# EAGLE library part 629722010114 (library WR-USB)
WR-USB Type C Connectors Characteristics Available in 24p (3.x), 16p (2.0) and 6p (Power Delivery only) Aligned with Power Delivery up to 240W High durability (10 000 cycles) UL, TID listing for USB standards Applications Mobile computing and smart devices High-performance industrial and medical systems Consumer electronics and multimedia hubs Smart buildings Details see: www.we-online.com/en/components/products/INPUT_OUTPUT_WR_USB_STANDARD Updated by Ella 2026-07-03 2026 (C) Würth Elektronik
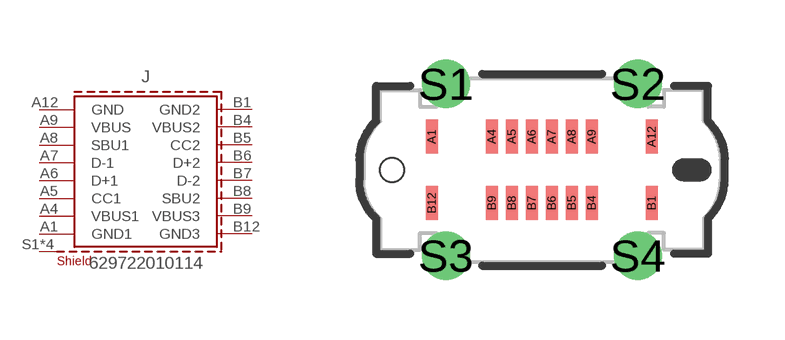
[diagram p36: symbol with the pads of 629722010114; footprint 629722010114]

Designator prefix J

## 629722010114 (APPLICATION: USB 2.0; DATASHEET: https://www.we-online.com/redexpert/spec/629722010114?ae; GERDER: Receptacle; INTERFACE-TYPE: Type C; IR: 5 A; MOUNT: SMT; PART-NUMBER: 629722010114; PCB-THICKNESS: 1.2 mm; PINS: 16pcs; TYPE: Vertical; VALUE: 629722010114; WORKING-VOLTAGE: 48 V (DC))  [629722010114]
A1  GND1  pas
A4  VBUS1  pas
A5  CC1  pas
A6  D+1  pas
A7  D-1  pas
A8  SBU1  pas
A9  VBUS  pas
A12  GND  pas
B1  GND2  pas
B4  VBUS2  pas
B5  CC2  pas
B6  D+2  pas
B7  D-2  pas
B8  SBU2  pas
B9  VBUS3  pas
B12  GND3  pas
S1  SHIELD  pas
S2  SHIELD  pas
S3  SHIELD  pas
S4  SHIELD  pas

## Footprint 629722010114 (pad centres in mm)
WR-USB Type C Connectors USB 2.0, Type C, Vertical SMT, 16Pins, PCB Thickness:1.2 mm
smd 0.3 x 0.85: A1 -2.75,0.83; A4 -1.25,0.83; A5 -0.75,0.83; A6 -0.25,0.83; A7 0.25,0.83; A8 0.75,0.83; A9 1.25,0.83; A12 2.75,0.83; B1 2.75,-0.83; B4 1.25,-0.83; B5 0.75,-0.83; B6 0.25,-0.83; B7 -0.25,-0.83; B8 -0.75,-0.83; B9 -1.25,-0.83; B12 -2.75,-0.83
drill 0.7 pad 1.2: S1 -2.4,2.15; S2 2.4,2.15; S3 -2.4,-2.15; S4 2.4,-2.15
hole 0.6 at -3.75,0